# EAGLE library part LT6016 (library BrownSpaceEngineering)
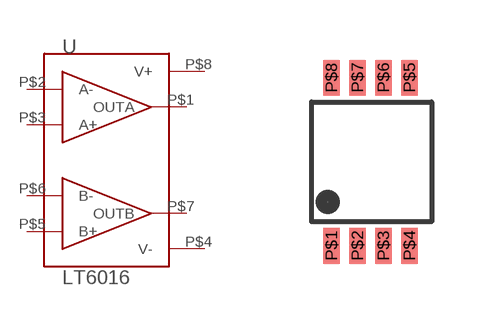
[diagram p19: symbol with the pads of MSOP-8; footprint MSOP-8]

Designator prefix U

## LT6016  [MSOP-8]
P$1  OUTA
P$2  A-
P$3  A+
P$4  V-
P$5  B+
P$6  B-
P$7  OUTB
P$8  V+

## Footprint MSOP-8 (pad centres in mm)
smd 0.42 x 0.89: P$1 0,0; P$2 0.65,0; P$3 1.3,0; P$4 1.95,0; P$5 1.95,4.21; P$6 1.3,4.21; P$7 0.65,4.21; P$8 0,4.21